# EAGLE library part AM4701 (library fifo)
FIFO
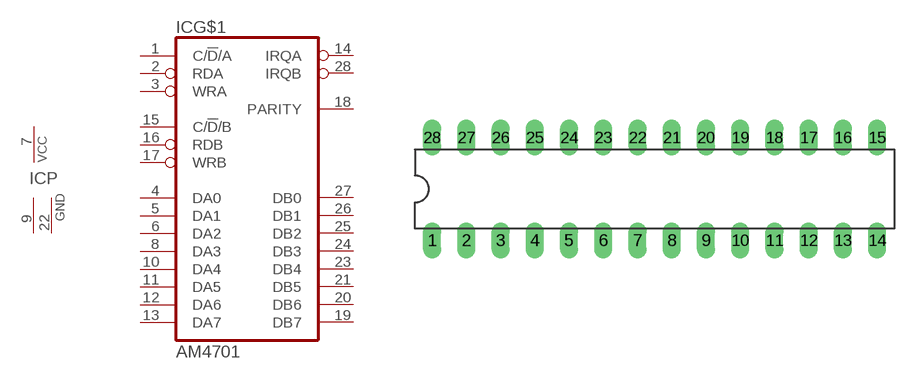
[diagram p2: symbol with the pads of DIL28-3; footprint DIL28-3]

Designator prefix IC; gates G$1=AM4701 P=PWR2GND

## AM4701 (OC_FARNELL: unknown; OC_NEWARK: unknown)  [DIL28-3]
1  G$1:C/!D!/A  in
2  G$1:RDA  in
3  G$1:WRA  in
4  G$1:DA0  in
5  G$1:DA1  in
6  G$1:DA2  in
7  P:VCC  pwr
8  G$1:DA3  in
9  P:GND  pwr
10  G$1:DA4  in
11  G$1:DA5  in
12  G$1:DA6  in
13  G$1:DA7  in
14  G$1:IRQA  out
15  G$1:C/!D!/B  in
16  G$1:RDB  in
17  G$1:WRB  in
18  G$1:PARITY
19  G$1:DB7  out
20  G$1:DB6  out
21  G$1:DB5  out
22  P:GND  pwr
23  G$1:DB4  out
24  G$1:DB3  out
25  G$1:DB2  out
26  G$1:DB1  out
27  G$1:DB0  out
28  G$1:IRQB  out

## Footprint DIL28-3 (pad centres in mm)
Dual In Line Package Small
drill 0.813 long: 1 -16.51,-3.81; 2 -13.97,-3.81; 3 -11.43,-3.81; 4 -8.89,-3.81; 5 -6.35,-3.81; 6 -3.81,-3.81; 7 -1.27,-3.81; 8 1.27,-3.81; 9 3.81,-3.81; 10 6.35,-3.81; 11 8.89,-3.81; 12 11.43,-3.81; 13 13.97,-3.81; 14 16.51,-3.81; 15 16.51,3.81; 16 13.97,3.81; 17 11.43,3.81; 18 8.89,3.81; 19 6.35,3.81; 20 3.81,3.81; 21 1.27,3.81; 22 -1.27,3.81; 23 -3.81,3.81; 24 -6.35,3.81; 25 -8.89,3.81; 26 -11.43,3.81; 27 -13.97,3.81; 28 -16.51,3.81